# Altium integrated library ON Semi General Purpose Transistors.IntLib: 1679 symbols (part 6 of 36)
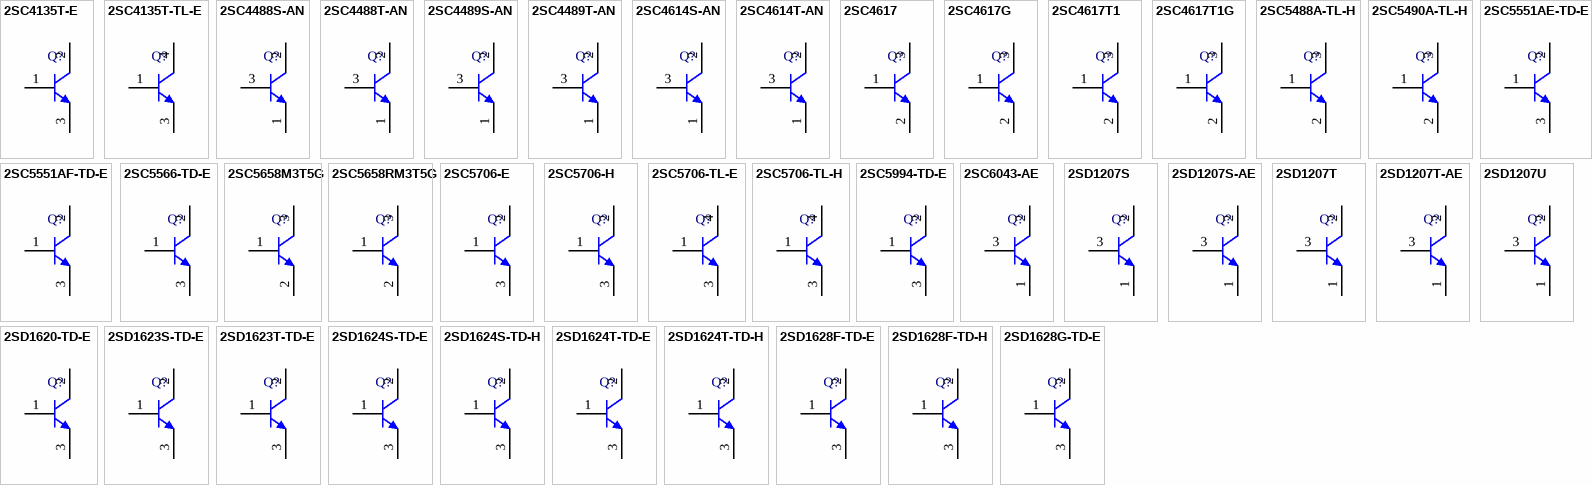
[diagram p50: symbols 2SC4135T-E to 2SD1628G-TD-E]

## 2SC4617T1G
designator Q?
NPN Silicon General Purpose Amplifier Transistor, 3-Pin SC-75, Pb-Free, Tape and Reel; Manufacturer: On Semiconductor; PartNumber: 2SC4617T1G; IC Continuous (A): 0.1; DatasheetVersion: Rev. 5; PackageVersion: Rev. F, 07/2005; PackageReference: SC-75-3-463-01; PackageDescription: 3-Pin Small Outline Transistor, Body 1.6 x 0.8 mm, Pitch 0.5 mm; Supplier 1: Digi-Key; Supplier Part Number 1: 2SC4617T1GOSTR-ND; Supplier 2: Digi-Key; Supplier Part Number 2: 2SC4617T1GOSCT-ND; Supplier 3: Mouser; Supplier Part Number 3: 863-2SC4617T1G; Packing: Tape and Reel; Polarity: NPN; RoHS: TRUE; Mounting Technology: Surface Mount; ComponentLink1Description: Manufacturer URL; ComponentLink1URL: http://www.onsemi.com/; ComponentLink2Description: Datasheet; ComponentLink2URL: http://www.onsemi.com/pub_link/Collateral/2SC4617-D.PDF; ComponentLink3Description: Package Specification; ComponentLink3URL: http://www.onsemi.com/pub_link/Collateral/463-01.PDF
footprint ONSC-SC-75-3-463-01_V (SOT23, 3-Leads, Body 1.6x0.8mm, Pitch 0.5mm)
pins: 1 B, 2 E, 3 C

## 2SC5488A-TL-H
designator Q?
RF Transistor, 10 V, 70 mA, fT=7 GHz, NPN Single, 3-Pin SSFP, Pb-Free, Tape and Reel; Manufacturer: On Semiconductor; PartNumber: 2SC5488A-TL-H; fT Min (MHz): 5000; IC Continuous (A): 0.07; PackageReference: SSFP-3; PackageDescription: 3-Pin Small Outline Transistor, Body 1.4 x 0.8 mm, Pitch 0.45 mm; Supplier 1: Digi-Key; Supplier Part Number 1: 2SC5488A-TL-H-ND; Supplier 2: Mouser; Supplier Part Number 2: 863-2SC5488A-TL-H; Packing: Tape and Reel; Polarity: NPN; RoHS: TRUE; Mounting Technology: Surface Mount; ComponentLink1Description: Manufacturer URL; ComponentLink1URL: http://www.onsemi.com/; ComponentLink2Description: Datasheet; ComponentLink2URL: http://www.onsemi.com/pub_link/Collateral/2SC5488A-D.PDF; ComponentLink3Description: Package Specification; ComponentLink3URL: http://www.onsemi.com/pub_link/Collateral/55GN01FA.PDF
footprint ONSC-SSFP-3_V (SOT23, 3-Leads, Body 1.4x0.8mm, Pitch 0.45mm)
pins: 1 B, 2 E, 3 C

## 2SC5490A-TL-H
designator Q?
RF Transistor, 10 V, 30 mA, fT=8 GHz, NPN Single, 3-Pin SSFP, Pb-Free, Tape and Reel; Manufacturer: On Semiconductor; PartNumber: 2SC5490A-TL-H; fT Min (MHz): 5000; IC Continuous (A): 0.03; PackageReference: SSFP-3; PackageDescription: 3-Pin Small Outline Transistor, Body 1.4 x 0.8 mm, Pitch 0.45 mm; Supplier 1: Digi-Key; Supplier Part Number 1: 2SC5490A-TL-H-ND; Supplier 2: Mouser; Supplier Part Number 2: 863-2SC5490A-TL-H; Packing: Tape and Reel; Polarity: NPN; RoHS: TRUE; Mounting Technology: Surface Mount; ComponentLink1Description: Manufacturer URL; ComponentLink1URL: http://www.onsemi.com/; ComponentLink2Description: Datasheet; ComponentLink2URL: http://www.onsemi.com/pub_link/Collateral/ENA1091-D.PDF; ComponentLink3Description: Package Specification; ComponentLink3URL: http://www.onsemi.com/pub_link/Collateral/55GN01FA.PDF
footprint ONSC-SSFP-3_V (SOT23, 3-Leads, Body 1.4x0.8mm, Pitch 0.45mm)
pins: 1 B, 2 E, 3 C

## 2SC5551AE-TD-E
designator Q?
RF Transistor, 30 V, 300 mA, fT=3.5 GHz, NPN Single, 3-Pin SOT-89, Pb-Free, Tape and Reel; Manufacturer: On Semiconductor; PartNumber: 2SC5551AE-TD-E; IC Continuous (A): 0.3; PackageVersion: Rev. O, 04/2012; PackageReference: SOT-89_PCP-1-3-419AU; PackageDescription: 3-Pin Small Outline Transistor, Body 4.5 x 2.5 mm, Pitch 1.5 mm; Supplier 1: Digi-Key; Supplier Part Number 1: 2SC5551AE-TD-E-ND; Supplier 2: Mouser; Supplier Part Number 2: 863-2SC5551AE-TD-E; Packing: Tape and Reel; Polarity: NPN; RoHS: TRUE; Mounting Technology: Surface Mount; ComponentLink1Description: Manufacturer URL; ComponentLink1URL: http://www.onsemi.com/; ComponentLink2Description: Datasheet; ComponentLink2URL: http://www.onsemi.com/pub_link/Collateral/2SC5551A-D.PDF; ComponentLink3Description: Package Specification; ComponentLink3URL: http://www.onsemi.com/pub_link/Collateral/ENA1087-D.PDF
footprint ONSC-SOT-89_PCP-1-3-419AU_V (SOT89, 3-Leads, Body 4.5x2.5mm, Pitch 1.5mm)
pins: 1 B, 2 C, 3 E

## 2SC5551AF-TD-E
designator Q?
RF Transistor, 30 V, 300 mA, fT=3.5 GHz, NPN Single, 3-Pin SOT-89, Pb-Free, Tape and Reel; Manufacturer: On Semiconductor; PartNumber: 2SC5551AF-TD-E; IC Continuous (A): 0.3; PackageVersion: Rev. O, 04/2012; PackageReference: SOT-89_PCP-1-3-419AU; PackageDescription: 3-Pin Small Outline Transistor, Body 4.5 x 2.5 mm, Pitch 1.5 mm; Supplier 1: Digi-Key; Supplier Part Number 1: 2SC5551AF-TD-E-ND; Supplier 2: Mouser; Supplier Part Number 2: 863-2SC5551AF-TD-E; Packing: Tape and Reel; Polarity: NPN; RoHS: TRUE; Mounting Technology: Surface Mount; ComponentLink1Description: Manufacturer URL; ComponentLink1URL: http://www.onsemi.com/; ComponentLink2Description: Datasheet; ComponentLink2URL: http://www.onsemi.com/pub_link/Collateral/2SC5551A-D.PDF; ComponentLink3Description: Package Specification; ComponentLink3URL: http://www.onsemi.com/pub_link/Collateral/ENA1087-D.PDF
footprint ONSC-SOT-89_PCP-1-3-419AU_V (SOT89, 3-Leads, Body 4.5x2.5mm, Pitch 1.5mm)
pins: 1 B, 2 C, 3 E

## 2SC5566-TD-E
designator Q?
Bipolar Transistor, 50 V, 4 A, Low VCE(sat), NPN Single, 3-Pin SOT-89, Pb-Free, Tape and Reel; Manufacturer: On Semiconductor; PartNumber: 2SC5566-TD-E; IC Continuous (A): 4; PackageVersion: Rev. O, 04/2012; PackageReference: SOT-89_PCP-1-3-419AU; PackageDescription: 3-Pin Small Outline Transistor, Body 4.5 x 2.5 mm, Pitch 1.5 mm; Supplier 1: Digi-Key; Supplier Part Number 1: 2SC5566-TD-E-ND; Supplier 2: Mouser; Supplier Part Number 2: 863-2SC5566-TD-E; Packing: Tape and Reel; Polarity: NPN; RoHS: TRUE; Mounting Technology: Surface Mount; ComponentLink1Description: Manufacturer URL; ComponentLink1URL: http://www.onsemi.com/; ComponentLink2Description: Datasheet; ComponentLink2URL: http://www.onsemi.com/pub_link/Collateral/EN6307-D.PDF; ComponentLink3Description: Package Specification; ComponentLink3URL: http://www.onsemi.com/pub_link/Collateral/ENA1087-D.PDF
footprint ONSC-SOT-89_PCP-1-3-419AU_V (SOT89, 3-Leads, Body 4.5x2.5mm, Pitch 1.5mm)
pins: 1 B, 2 C, 3 E

## 2SC5658M3T5G
designator Q?
NPN Silicon General Purpose Amplifier Transistor, 3-Pin SOT-723, Pb-Free, Tape and Reel; Manufacturer: On Semiconductor; PartNumber: 2SC5658M3T5G; IC Continuous (A): 0.15; DatasheetVersion: Rev. 4; PackageVersion: Rev. D, 08/2009; PackageReference: SOT-723-3-631AA-01; PackageDescription: 3-Pin Small Outline Transistor, Body 1.2 x 0.8 mm, Pitch 0.4 mm; Supplier 1: Digi-Key; Supplier Part Number 1: 2SC5658M3T5GOSTR-ND; Supplier 2: Digi-Key; Supplier Part Number 2: 2SC5658M3T5GOSCT-ND; Supplier 3: Digi-Key; Supplier Part Number 3: 2SC5658M3T5GOSDKR-ND; Supplier 4: Newark; Supplier Part Number 4: 45J2516; Supplier 5: Mouser; Supplier Part Number 5: 863-2SC5658M3T5G; Packing: Tape and Reel; Polarity: NPN; RoHS: TRUE; Mounting Technology: Surface Mount; ComponentLink1Description: Manufacturer URL; ComponentLink1URL: http://www.onsemi.com/; ComponentLink2Description: Datasheet; ComponentLink2URL: http://www.onsemi.com/pub_link/Collateral/2SC5658M3-D.PDF; ComponentLink3Description: Package Specification; ComponentLink3URL: http://www.onsemi.com/pub_link/Collateral/631AA.PDF
footprint ONSC-SOT-723-3-631AA-01_V (SOT223, 3-Leads, Body 1.2x0.8mm, Pitch 0.4mm)
pins: 1 B, 2 E, 3 C

## 2SC5658RM3T5G
designator Q?
NPN Silicon General Purpose Amplifier Transistor, 3-Pin SOT-723, Pb-Free, Tape and Reel; Manufacturer: On Semiconductor; PartNumber: 2SC5658RM3T5G; IC Continuous (A): 0.15; DatasheetVersion: Rev. 4; PackageVersion: Rev. D, 08/2009; PackageReference: SOT-723-3-631AA-01; PackageDescription: 3-Pin Small Outline Transistor, Body 1.2 x 0.8 mm, Pitch 0.4 mm; Supplier 1: Digi-Key; Supplier Part Number 1: 2SC5658RM3T5GOSTR-ND; Supplier 2: Digi-Key; Supplier Part Number 2: 2SC5658RM3T5GOSCT-ND; Supplier 3: Digi-Key; Supplier Part Number 3: 2SC5658RM3T5GOSDKR-ND; Supplier 4: Newark; Supplier Part Number 4: 52R8952; Supplier 5: Mouser; Supplier Part Number 5: 863-2SC5658RM3T5G; Packing: Tape and Reel; Polarity: NPN; RoHS: TRUE; Mounting Technology: Surface Mount; ComponentLink1Description: Manufacturer URL; ComponentLink1URL: http://www.onsemi.com/; ComponentLink2Description: Datasheet; ComponentLink2URL: http://www.onsemi.com/pub_link/Collateral/2SC5658M3-D.PDF; ComponentLink3Description: Package Specification; ComponentLink3URL: http://www.onsemi.com/pub_link/Collateral/631AA.PDF
footprint ONSC-SOT-723-3-631AA-01_V (SOT223, 3-Leads, Body 1.2x0.8mm, Pitch 0.4mm)
pins: 1 B, 2 E, 3 C

## 2SC5706-E
designator Q?
Bipolar Transistor, 50 V, 5 A, Low VCE(sat), NPN Single, 3-Pin IPAK, Pb-Free, Bulk Bag; Manufacturer: On Semiconductor; PartNumber: 2SC5706-E; IC Continuous (A): 5; PackageVersion: Rev. O, 01/2012; PackageReference: IPAK-3-369AJ; PackageDescription: 3-Pin Flange Mount, Vertical Straight Lead, Body 6.5 x 5.5 mm, Pitch 2.3 mm; Supplier 1: Digi-Key; Supplier Part Number 1: 2SC5706-E-ND; Supplier 2: Newark; Supplier Part Number 2: 65T2494; Supplier 3: Mouser; Supplier Part Number 3: 863-2SC5706-E; Packing: Bulk Bag; Polarity: NPN; RoHS: TRUE; Mounting Technology: Through Hole; ComponentLink1Description: Manufacturer URL; ComponentLink1URL: http://www.onsemi.com/; ComponentLink2Description: Datasheet; ComponentLink2URL: http://www.onsemi.com/pub_link/Collateral/EN6912-D.PDF; ComponentLink3Description: Package Specification; ComponentLink3URL: http://www.onsemi.cn/pub_link/Collateral/369AJ.PDF
footprint ONSC-IPAK-3-369AJ (FM, 3-Leads, Body 6.7x2.5mm, Pitch 2.3mm)
pins: 1 B, 2 C, 3 E

## 2SC5706-H
designator Q?
Bipolar Transistor, 50 V, 5 A, Low VCE(sat), NPN Single, 3-Pin IPAK, Pb-Free, Bulk Bag; Manufacturer: On Semiconductor; PartNumber: 2SC5706-H; IC Continuous (A): 5; PackageVersion: Rev. O, 01/2012; PackageReference: IPAK-3-369AJ; PackageDescription: 3-Pin Flange Mount, Vertical Straight Lead, Body 6.5 x 5.5 mm, Pitch 2.3 mm; Supplier 1: Digi-Key; Supplier Part Number 1: 2SC5706-H-ND; Supplier 2: Mouser; Supplier Part Number 2: 863-2SC5706-H; Packing: Bulk Bag; Polarity: NPN; RoHS: TRUE; Mounting Technology: Through Hole; ComponentLink1Description: Manufacturer URL; ComponentLink1URL: http://www.onsemi.com/; ComponentLink2Description: Datasheet; ComponentLink2URL: http://www.onsemi.com/pub_link/Collateral/EN6912-D.PDF; ComponentLink3Description: Package Specification; ComponentLink3URL: http://www.onsemi.cn/pub_link/Collateral/369AJ.PDF
footprint ONSC-IPAK-3-369AJ (FM, 3-Leads, Body 6.7x2.5mm, Pitch 2.3mm)
pins: 1 B, 2 C, 3 E

## 2SC5706-TL-E
designator Q?
Bipolar Transistor, 50 V, 5 A, Low VCE(sat), NPN Single, 3-Pin TP-FA, Pb-Free, Tape and Reel; Manufacturer: On Semiconductor; PartNumber: 2SC5706-TL-E; IC Continuous (A): 5; PackageVersion: Rev. O, 01/2012; PackageReference: TP-FA-3-369AH; PackageDescription: 3-Pin Flange Mount, Body 6.5 x 5.5 mm, Pitch 2.3 mm; Supplier 1: Digi-Key; Supplier Part Number 1: 2SC5706-TL-E-ND; Supplier 2: Mouser; Supplier Part Number 2: 863-2SC5706-TL-E; Packing: Tape and Reel; Polarity: NPN; RoHS: TRUE; Mounting Technology: Surface Mount; ComponentLink1Description: Manufacturer URL; ComponentLink1URL: http://www.onsemi.com/; ComponentLink2Description: Datasheet; ComponentLink2URL: http://www.onsemi.com/pub_link/Collateral/EN6912-D.PDF; ComponentLink3Description: Package Specification; ComponentLink3URL: http://www.onsemi.com/pub_link/Collateral/369AH.PDF
footprint ONSC-TP-FA-3-369AH_V (DPAK, 3-Leads, Body 6.5x5.5mm, Pitch 2.3mm)
pins: 1 B, 3 E, 4 C

## 2SC5706-TL-H
designator Q?
Bipolar Transistor, 50 V, 5 A, Low VCE(sat), NPN Single, 3-Pin TP-FA, Pb-Free, Tape and Reel; Manufacturer: On Semiconductor; PartNumber: 2SC5706-TL-H; IC Continuous (A): 5; PackageVersion: Rev. O, 01/2012; PackageReference: TP-FA-3-369AH; PackageDescription: 3-Pin Flange Mount, Body 6.5 x 5.5 mm, Pitch 2.3 mm; Supplier 1: Digi-Key; Supplier Part Number 1: 2SC5706-TL-H-ND; Supplier 2: Mouser; Supplier Part Number 2: 863-2SC5706-TL-H; Packing: Tape and Reel; Polarity: NPN; RoHS: TRUE; Mounting Technology: Surface Mount; ComponentLink1Description: Manufacturer URL; ComponentLink1URL: http://www.onsemi.com/; ComponentLink2Description: Datasheet; ComponentLink2URL: http://www.onsemi.com/pub_link/Collateral/EN6912-D.PDF; ComponentLink3Description: Package Specification; ComponentLink3URL: http://www.onsemi.com/pub_link/Collateral/369AH.PDF
footprint ONSC-TP-FA-3-369AH_V (DPAK, 3-Leads, Body 6.5x5.5mm, Pitch 2.3mm)
pins: 1 B, 3 E, 4 C

## 2SC5994-TD-E
designator Q?
Bipolar Transistor, 50 V, 2 A, Low VCE(sat), NPN Single, 3-Pin SOT-89, Pb-Free, Tape and Reel; Manufacturer: On Semiconductor; PartNumber: 2SC5994-TD-E; IC Continuous (A): 2; PackageVersion: Rev. O, 04/2012; PackageReference: SOT-89_PCP-1-3-419AU; PackageDescription: 3-Pin Small Outline Transistor, Body 4.5 x 2.5 mm, Pitch 1.5 mm; Supplier 1: Digi-Key; Supplier Part Number 1: 2SC5994-TD-E-ND; Supplier 2: Mouser; Supplier Part Number 2: 863-2SC5994-TD-E; Packing: Tape and Reel; Polarity: NPN; RoHS: TRUE; Mounting Technology: Surface Mount; ComponentLink1Description: Manufacturer URL; ComponentLink1URL: http://www.onsemi.com/; ComponentLink2Description: Datasheet; ComponentLink2URL: http://www.onsemi.com/pub_link/Collateral/EN8035-D.PDF; ComponentLink3Description: Package Specification; ComponentLink3URL: http://www.onsemi.com/pub_link/Collateral/ENA1087-D.PDF
footprint ONSC-SOT-89_PCP-1-3-419AU_V (SOT89, 3-Leads, Body 4.5x2.5mm, Pitch 1.5mm)
pins: 1 B, 2 C, 3 E

## 2SC6043-AE
designator Q?
Bipolar Transistor, 50 V, 2 A, Low VCE(sat), NPN Single, 3-Pin MP, Pb-Free, Ammo Box; Manufacturer: On Semiconductor; PartNumber: 2SC6043-AE; IC Continuous (A): 2; PackageReference: MP-3-135AB_AE; PackageDescription: 3-Pin Transistor Outline, Body 6 x 4.7 mm, Pitch 1.45 mm; Supplier 1: Digi-Key; Supplier Part Number 1: 2SC6043-AE-ND; Supplier 2: Newark; Supplier Part Number 2: 65T2503; Supplier 3: Mouser; Supplier Part Number 3: 863-2SC6043-AE; Packing: Ammo Box; Polarity: NPN; RoHS: TRUE; Mounting Technology: Through Hole; ComponentLink1Description: Manufacturer URL; ComponentLink1URL: http://www.onsemi.com/; ComponentLink2Description: Datasheet; ComponentLink2URL: http://www.onsemi.com/pub_link/Collateral/2SC6043-D.PDF; ComponentLink3Description: Package Specification; ComponentLink3URL: http://www.onsemi.com/pub_link/Collateral/EN8022-D.PDF
footprint ONSC-MP-3-135AB_AE (TO, 3-Leads, Body Dia 6mm, Pitch 2.5mm)
pins: 1 E, 2 C, 3 B

## 2SD1207S
designator Q?
NPN Epitaxial Planar Silicon Transistor, Large-Current Switching Application, 3-Pin MP, Pb-Free, Bulk Bag; Manufacturer: On Semiconductor; PartNumber: 2SD1207S; IC Continuous (A): 2; PackageVersion: Rev. O, 02/2012; PackageReference: MP-3-135AB; PackageDescription: 3-Pin Transistor Outline, Body 6 x 4.7 mm, Pitch 1.45 mm; Supplier 1: Digi-Key; Supplier Part Number 1: 2SD1207S-ND; Supplier 2: Newark; Supplier Part Number 2: 07W7689; Supplier 3: Mouser; Supplier Part Number 3: 863-2SD1207S; Packing: Bulk Bag; Polarity: NPN; RoHS: TRUE; Mounting Technology: Through Hole; ComponentLink1Description: Manufacturer URL; ComponentLink1URL: http://www.onsemi.com/; ComponentLink2Description: Datasheet; ComponentLink2URL: http://www.onsemi.com/pub_link/Collateral/EN930-D.PDF; ComponentLink3Description: Package Specification; ComponentLink3URL: http://www.onsemi.com/pub_link/Collateral/135AB.PDF
footprint ONSC-MP-3-135AB (MP, 3-Leads, Body Dia 6 mm, Pitch 1.45mm)
pins: 1 E, 2 C, 3 B

## 2SD1207S-AE
designator Q?
NPN Epitaxial Planar Silicon Transistor, Large-Current Switching Application, 3-Pin MP, Pb-Free, Ammo Box; Manufacturer: On Semiconductor; PartNumber: 2SD1207S-AE; IC Continuous (A): 2; PackageReference: MP-3-135AB_AE; PackageDescription: 3-Pin Transistor Outline, Body 6 x 4.7 mm, Pitch 1.45 mm; Supplier 1: Digi-Key; Supplier Part Number 1: 2SD1207S-AE-ND; Supplier 2: Mouser; Supplier Part Number 2: 863-2SD1207S-AE; Packing: Ammo Box; Polarity: NPN; RoHS: TRUE; Mounting Technology: Through Hole; ComponentLink1Description: Manufacturer URL; ComponentLink1URL: http://www.onsemi.com/; ComponentLink2Description: Datasheet; ComponentLink2URL: http://www.onsemi.com/pub_link/Collateral/EN930-D.PDF; ComponentLink3Description: Package Specification; ComponentLink3URL: http://www.onsemi.com/pub_link/Collateral/EN8022-D.PDF
footprint ONSC-MP-3-135AB_AE (TO, 3-Leads, Body Dia 6mm, Pitch 2.5mm)
pins: 1 E, 2 C, 3 B

## 2SD1207T
designator Q?
NPN Epitaxial Planar Silicon Transistor, Large-Current Switching Application, 3-Pin MP, Pb-Free, Bulk Bag; Manufacturer: On Semiconductor; PartNumber: 2SD1207T; IC Continuous (A): 2; PackageVersion: Rev. O, 02/2012; PackageReference: MP-3-135AB; PackageDescription: 3-Pin Transistor Outline, Body 6 x 4.7 mm, Pitch 1.45 mm; Supplier 1: Digi-Key; Supplier Part Number 1: 2SD1207T-ND; Supplier 2: Mouser; Supplier Part Number 2: 863-2SD1207T; Packing: Bulk Bag; Polarity: NPN; RoHS: TRUE; Mounting Technology: Through Hole; ComponentLink1Description: Manufacturer URL; ComponentLink1URL: http://www.onsemi.com/; ComponentLink2Description: Datasheet; ComponentLink2URL: http://www.onsemi.com/pub_link/Collateral/EN930-D.PDF; ComponentLink3Description: Package Specification; ComponentLink3URL: http://www.onsemi.com/pub_link/Collateral/135AB.PDF
footprint ONSC-MP-3-135AB (MP, 3-Leads, Body Dia 6 mm, Pitch 1.45mm)
pins: 1 E, 2 C, 3 B

## 2SD1207T-AE
designator Q?
NPN Epitaxial Planar Silicon Transistor, Large-Current Switching Application, 3-Pin MP, Pb-Free, Ammo Box; Manufacturer: On Semiconductor; PartNumber: 2SD1207T-AE; IC Continuous (A): 2; PackageReference: MP-3-135AB_AE; PackageDescription: 3-Pin Transistor Outline, Body 6 x 4.7 mm, Pitch 1.45 mm; Supplier 1: Digi-Key; Supplier Part Number 1: 2SD1207T-AE-ND; Supplier 2: Newark; Supplier Part Number 2: 65T2512; Supplier 3: Mouser; Supplier Part Number 3: 863-2SD1207T-AE; Packing: Ammo Box; Polarity: NPN; RoHS: TRUE; Mounting Technology: Through Hole; ComponentLink1Description: Manufacturer URL; ComponentLink1URL: http://www.onsemi.com/; ComponentLink2Description: Datasheet; ComponentLink2URL: http://www.onsemi.com/pub_link/Collateral/EN930-D.PDF; ComponentLink3Description: Package Specification; ComponentLink3URL: http://www.onsemi.com/pub_link/Collateral/EN8022-D.PDF
footprint ONSC-MP-3-135AB_AE (TO, 3-Leads, Body Dia 6mm, Pitch 2.5mm)
pins: 1 E, 2 C, 3 B

## 2SD1207U
designator Q?
NPN Epitaxial Planar Silicon Transistor, Large-Current Switching Application, 3-Pin MP, Pb-Free, Bulk Bag; Manufacturer: On Semiconductor; PartNumber: 2SD1207U; IC Continuous (A): 2; PackageVersion: Rev. O, 02/2012; PackageReference: MP-3-135AB; PackageDescription: 3-Pin Transistor Outline, Body 6 x 4.7 mm, Pitch 1.45 mm; Supplier 1: Digi-Key; Supplier Part Number 1: 2SD1207U-ND; Supplier 2: Mouser; Supplier Part Number 2: 863-2SD1207U; Packing: Bulk Bag; Polarity: NPN; RoHS: TRUE; Mounting Technology: Through Hole; ComponentLink1Description: Manufacturer URL; ComponentLink1URL: http://www.onsemi.com/; ComponentLink2Description: Datasheet; ComponentLink2URL: http://www.onsemi.com/pub_link/Collateral/EN930-D.PDF; ComponentLink3Description: Package Specification; ComponentLink3URL: http://www.onsemi.com/pub_link/Collateral/135AB.PDF
footprint ONSC-MP-3-135AB (MP, 3-Leads, Body Dia 6 mm, Pitch 1.45mm)
pins: 1 E, 2 C, 3 B

## 2SD1620-TD-E
designator Q?
Bipolar Transistor, 10 V, 3 A, Low VCE(sat), NPN Single, 3-Pin SOT-89, Pb-Free, Tape and Reel; Manufacturer: On Semiconductor; PartNumber: 2SD1620-TD-E; IC Continuous (A): 3; PackageVersion: Rev. O, 04/2012; PackageReference: SOT-89_PCP-1-3-419AU; PackageDescription: 3-Pin Small Outline Transistor, Body 4.5 x 2.5 mm, Pitch 1.5 mm; Supplier 1: Digi-Key; Supplier Part Number 1: 2SD1620-TD-E-ND; Supplier 2: Newark; Supplier Part Number 2: 65T2514; Supplier 3: Mouser; Supplier Part Number 3: 863-2SD1620-TD-E; Packing: Tape and Reel; Polarity: NPN; RoHS: TRUE; Mounting Technology: Surface Mount; ComponentLink1Description: Manufacturer URL; ComponentLink1URL: http://www.onsemi.com/; ComponentLink2Description: Datasheet; ComponentLink2URL: http://www.onsemi.com/pub_link/Collateral/EN1719-D.PDF; ComponentLink3Description: Package Specification; ComponentLink3URL: http://www.onsemi.com/pub_link/Collateral/ENA1087-D.PDF
footprint ONSC-SOT-89_PCP-1-3-419AU_V (SOT89, 3-Leads, Body 4.5x2.5mm, Pitch 1.5mm)
pins: 1 B, 2 C, 3 E

## 2SD1623S-TD-E
designator Q?
Bipolar Transistor, 50 V, 2 A, Low VCE(sat), NPN Single, 3-Pin SOT-89, Pb-Free, Tape and Reel; Manufacturer: On Semiconductor; PartNumber: 2SD1623S-TD-E; IC Continuous (A): 2; PackageVersion: Rev. O, 04/2012; PackageReference: SOT-89_PCP-1-3-419AU; PackageDescription: 3-Pin Small Outline Transistor, Body 4.5 x 2.5 mm, Pitch 1.5 mm; Supplier 1: Digi-Key; Supplier Part Number 1: 2SD1623S-TD-E-ND; Supplier 2: Newark; Supplier Part Number 2: 65T2515; Supplier 3: Mouser; Supplier Part Number 3: 863-2SD1623S-TD-E; Packing: Tape and Reel; Polarity: NPN; RoHS: TRUE; Mounting Technology: Surface Mount; ComponentLink1Description: Manufacturer URL; ComponentLink1URL: http://www.onsemi.com/; ComponentLink2Description: Datasheet; ComponentLink2URL: http://www.onsemi.com/pub_link/Collateral/EN1727-D.PDF; ComponentLink3Description: Package Specification; ComponentLink3URL: http://www.onsemi.com/pub_link/Collateral/ENA1087-D.PDF
footprint ONSC-SOT-89_PCP-1-3-419AU_V (SOT89, 3-Leads, Body 4.5x2.5mm, Pitch 1.5mm)
pins: 1 B, 2 C, 3 E

## 2SD1623T-TD-E
designator Q?
Bipolar Transistor, 50 V, 2 A, Low VCE(sat), NPN Single, 3-Pin SOT-89, Pb-Free, Tape and Reel; Manufacturer: On Semiconductor; PartNumber: 2SD1623T-TD-E; IC Continuous (A): 2; PackageVersion: Rev. O, 04/2012; PackageReference: SOT-89_PCP-1-3-419AU; PackageDescription: 3-Pin Small Outline Transistor, Body 4.5 x 2.5 mm, Pitch 1.5 mm; Supplier 1: Digi-Key; Supplier Part Number 1: 2SD1623T-TD-E-ND; Supplier 2: Mouser; Supplier Part Number 2: 863-2SD1623T-TD-E; Packing: Tape and Reel; Polarity: NPN; RoHS: TRUE; Mounting Technology: Surface Mount; ComponentLink1Description: Manufacturer URL; ComponentLink1URL: http://www.onsemi.com/; ComponentLink2Description: Datasheet; ComponentLink2URL: http://www.onsemi.com/pub_link/Collateral/EN1727-D.PDF; ComponentLink3Description: Package Specification; ComponentLink3URL: http://www.onsemi.com/pub_link/Collateral/ENA1087-D.PDF
footprint ONSC-SOT-89_PCP-1-3-419AU_V (SOT89, 3-Leads, Body 4.5x2.5mm, Pitch 1.5mm)
pins: 1 B, 2 C, 3 E

## 2SD1624S-TD-E
designator Q?
Bipolar Transistor, 50 V, 3 A, Low VCE(sat), NPN Single, 3-Pin SOT-89, Pb-Free, Tape and Reel; Manufacturer: On Semiconductor; PartNumber: 2SD1624S-TD-E; IC Continuous (A): 3; PackageVersion: Rev. O, 04/2012; PackageReference: SOT-89_PCP-1-3-419AU; PackageDescription: 3-Pin Small Outline Transistor, Body 4.5 x 2.5 mm, Pitch 1.5 mm; Supplier 1: Digi-Key; Supplier Part Number 1: 2SD1624S-TD-E-ND; Supplier 2: Mouser; Supplier Part Number 2: 863-2SD1624S-TD-E; Packing: Tape and Reel; Polarity: NPN; RoHS: TRUE; Mounting Technology: Surface Mount; ComponentLink1Description: Manufacturer URL; ComponentLink1URL: http://www.onsemi.com/; ComponentLink2Description: Datasheet; ComponentLink2URL: http://www.onsemi.com/pub_link/Collateral/EN2019-D.PDF; ComponentLink3Description: Package Specification; ComponentLink3URL: http://www.onsemi.com/pub_link/Collateral/ENA1087-D.PDF
footprint ONSC-SOT-89_PCP-1-3-419AU_V (SOT89, 3-Leads, Body 4.5x2.5mm, Pitch 1.5mm)
pins: 1 B, 2 C, 3 E

## 2SD1624S-TD-H
designator Q?
Bipolar Transistor, 50 V, 3 A, Low VCE(sat), NPN Single, 3-Pin SOT-89, Pb-Free, Tape and Reel; Manufacturer: On Semiconductor; PartNumber: 2SD1624S-TD-H; IC Continuous (A): 3; PackageVersion: Rev. O, 04/2012; PackageReference: SOT-89_PCP-1-3-419AU; PackageDescription: 3-Pin Small Outline Transistor, Body 4.5 x 2.5 mm, Pitch 1.5 mm; Supplier 1: Digi-Key; Supplier Part Number 1: 2SD1624S-TD-H-ND; Supplier 2: Mouser; Supplier Part Number 2: 863-2SD1624S-TD-H; Packing: Tape and Reel; Polarity: NPN; RoHS: TRUE; Mounting Technology: Surface Mount; ComponentLink1Description: Manufacturer URL; ComponentLink1URL: http://www.onsemi.com/; ComponentLink2Description: Datasheet; ComponentLink2URL: http://www.onsemi.com/pub_link/Collateral/EN2019-D.PDF; ComponentLink3Description: Package Specification; ComponentLink3URL: http://www.onsemi.com/pub_link/Collateral/ENA1087-D.PDF
footprint ONSC-SOT-89_PCP-1-3-419AU_V (SOT89, 3-Leads, Body 4.5x2.5mm, Pitch 1.5mm)
pins: 1 B, 2 C, 3 E

## 2SD1624T-TD-E
designator Q?
Bipolar Transistor, 50 V, 3 A, Low VCE(sat), NPN Single, 3-Pin SOT-89, Pb-Free, Tape and Reel; Manufacturer: On Semiconductor; PartNumber: 2SD1624T-TD-E; IC Continuous (A): 3; PackageVersion: Rev. O, 04/2012; PackageReference: SOT-89_PCP-1-3-419AU; PackageDescription: 3-Pin Small Outline Transistor, Body 4.5 x 2.5 mm, Pitch 1.5 mm; Supplier 1: Digi-Key; Supplier Part Number 1: 2SD1624T-TD-E-ND; Supplier 2: Mouser; Supplier Part Number 2: 863-2SD1624T-TD-E; Packing: Tape and Reel; Polarity: NPN; RoHS: TRUE; Mounting Technology: Surface Mount; ComponentLink1Description: Manufacturer URL; ComponentLink1URL: http://www.onsemi.com/; ComponentLink2Description: Datasheet; ComponentLink2URL: http://www.onsemi.com/pub_link/Collateral/EN2019-D.PDF; ComponentLink3Description: Package Specification; ComponentLink3URL: http://www.onsemi.com/pub_link/Collateral/ENA1087-D.PDF
footprint ONSC-SOT-89_PCP-1-3-419AU_V (SOT89, 3-Leads, Body 4.5x2.5mm, Pitch 1.5mm)
pins: 1 B, 2 C, 3 E

## 2SD1624T-TD-H
designator Q?
Bipolar Transistor, 50 V, 3 A, Low VCE(sat), NPN Single, 3-Pin SOT-89, Pb-Free, Tape and Reel; Manufacturer: On Semiconductor; PartNumber: 2SD1624T-TD-H; IC Continuous (A): 3; PackageVersion: Rev. O, 04/2012; PackageReference: SOT-89_PCP-1-3-419AU; PackageDescription: 3-Pin Small Outline Transistor, Body 4.5 x 2.5 mm, Pitch 1.5 mm; Supplier 1: Digi-Key; Supplier Part Number 1: 2SD1624T-TD-H-ND; Supplier 2: Mouser; Supplier Part Number 2: 863-2SD1624T-TD-H; Packing: Tape and Reel; Polarity: NPN; RoHS: TRUE; Mounting Technology: Surface Mount; ComponentLink1Description: Manufacturer URL; ComponentLink1URL: http://www.onsemi.com/; ComponentLink2Description: Datasheet; ComponentLink2URL: http://www.onsemi.com/pub_link/Collateral/EN2019-D.PDF; ComponentLink3Description: Package Specification; ComponentLink3URL: http://www.onsemi.com/pub_link/Collateral/ENA1087-D.PDF
footprint ONSC-SOT-89_PCP-1-3-419AU_V (SOT89, 3-Leads, Body 4.5x2.5mm, Pitch 1.5mm)
pins: 1 B, 2 C, 3 E

## 2SD1628F-TD-E
designator Q?
Bipolar Transistor, 20 V, 5 A, Low VCE(sat), NPN Single, 3-Pin SOT-89, Pb-Free, Tape and Reel; Manufacturer: On Semiconductor; PartNumber: 2SD1628F-TD-E; IC Continuous (A): 5; PackageVersion: Rev. O, 04/2012; PackageReference: SOT-89_PCP-1-3-419AU; PackageDescription: 3-Pin Small Outline Transistor, Body 4.5 x 2.5 mm, Pitch 1.5 mm; Supplier 1: Digi-Key; Supplier Part Number 1: 2SD1628F-TD-E-ND; Supplier 2: Mouser; Supplier Part Number 2: 863-2SD1628F-TD-E; Packing: Tape and Reel; Polarity: NPN; RoHS: TRUE; Mounting Technology: Surface Mount; ComponentLink1Description: Manufacturer URL; ComponentLink1URL: http://www.onsemi.com/; ComponentLink2Description: Datasheet; ComponentLink2URL: http://www.onsemi.com/pub_link/Collateral/EN1781-D.PDF; ComponentLink3Description: Package Specification; ComponentLink3URL: http://www.onsemi.com/pub_link/Collateral/ENA1087-D.PDF
footprint ONSC-SOT-89_PCP-1-3-419AU_V (SOT89, 3-Leads, Body 4.5x2.5mm, Pitch 1.5mm)
pins: 1 B, 2 C, 3 E

## 2SD1628F-TD-H
designator Q?
Bipolar Transistor, 20 V, 5 A, Low VCE(sat), NPN Single, 3-Pin SOT-89, Pb-Free, Tape and Reel; Manufacturer: On Semiconductor; PartNumber: 2SD1628F-TD-H; IC Continuous (A): 5; PackageVersion: Rev. O, 04/2012; PackageReference: SOT-89_PCP-1-3-419AU; PackageDescription: 3-Pin Small Outline Transistor, Body 4.5 x 2.5 mm, Pitch 1.5 mm; Supplier 1: Digi-Key; Supplier Part Number 1: 2SD1628F-TD-H-ND; Supplier 2: Mouser; Supplier Part Number 2: 863-2SD1628F-TD-H; Packing: Tape and Reel; Polarity: NPN; RoHS: TRUE; Mounting Technology: Surface Mount; ComponentLink1Description: Manufacturer URL; ComponentLink1URL: http://www.onsemi.com/; ComponentLink2Description: Datasheet; ComponentLink2URL: http://www.onsemi.com/pub_link/Collateral/EN1781-D.PDF; ComponentLink3Description: Package Specification; ComponentLink3URL: http://www.onsemi.com/pub_link/Collateral/ENA1087-D.PDF
footprint ONSC-SOT-89_PCP-1-3-419AU_V (SOT89, 3-Leads, Body 4.5x2.5mm, Pitch 1.5mm)
pins: 1 B, 2 C, 3 E

## 2SD1628G-TD-E
designator Q?
Bipolar Transistor, 20 V, 5 A, Low VCE(sat), NPN Single, 3-Pin SOT-89, Pb-Free, Tape and Reel; Manufacturer: On Semiconductor; PartNumber: 2SD1628G-TD-E; IC Continuous (A): 5; PackageVersion: Rev. O, 04/2012; PackageReference: SOT-89_PCP-1-3-419AU; PackageDescription: 3-Pin Small Outline Transistor, Body 4.5 x 2.5 mm, Pitch 1.5 mm; Supplier 1: Mouser; Supplier Part Number 1: 863-2SD1628G-TD-E; Packing: Tape and Reel; Polarity: NPN; RoHS: TRUE; Mounting Technology: Surface Mount; ComponentLink1Description: Manufacturer URL; ComponentLink1URL: http://www.onsemi.com/; ComponentLink2Description: Datasheet; ComponentLink2URL: http://www.onsemi.com/pub_link/Collateral/EN1781-D.PDF; ComponentLink3Description: Package Specification; ComponentLink3URL: http://www.onsemi.com/pub_link/Collateral/ENA1087-D.PDF
footprint ONSC-SOT-89_PCP-1-3-419AU_V (SOT89, 3-Leads, Body 4.5x2.5mm, Pitch 1.5mm)
pins: 1 B, 2 C, 3 E

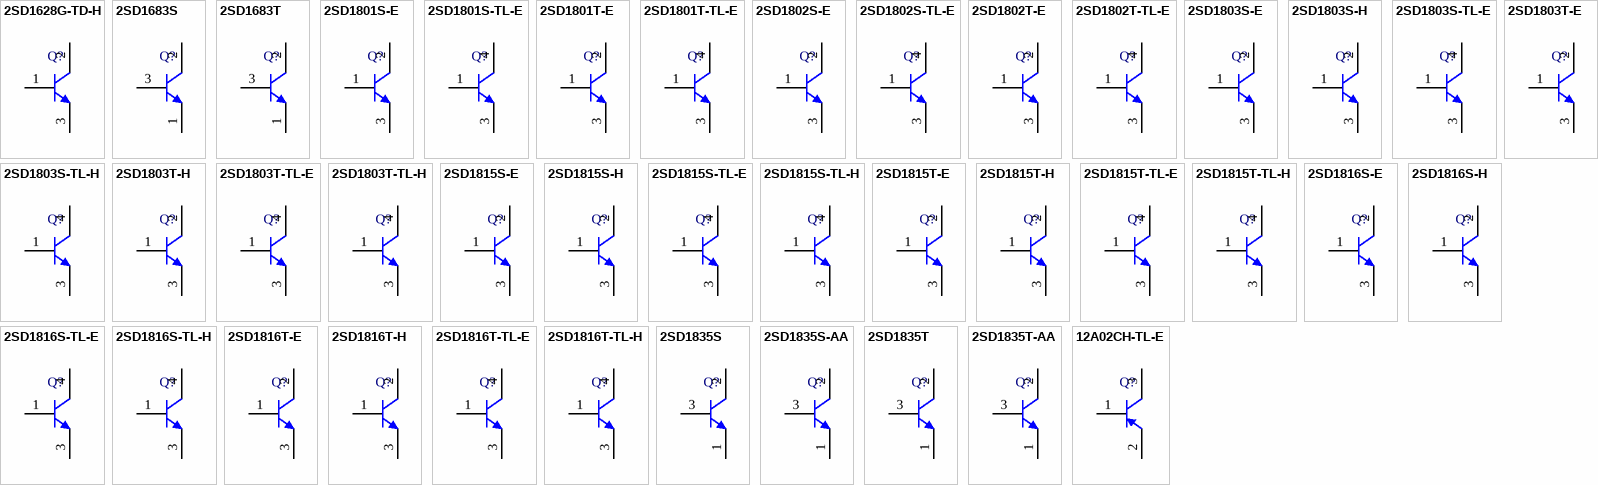
[diagram p7: symbols 2SD1628G-TD-H to 12A02CH-TL-E]

## 2SD1628G-TD-H
designator Q?
Bipolar Transistor, 20 V, 5 A, Low VCE(sat), NPN Single, 3-Pin SOT-89, Pb-Free, Tape and Reel; Manufacturer: On Semiconductor; PartNumber: 2SD1628G-TD-H; IC Continuous (A): 5; PackageVersion: Rev. O, 04/2012; PackageReference: SOT-89_PCP-1-3-419AU; PackageDescription: 3-Pin Small Outline Transistor, Body 4.5 x 2.5 mm, Pitch 1.5 mm; Supplier 1: Digi-Key; Supplier Part Number 1: 2SD1628G-TD-H-ND; Supplier 2: Mouser; Supplier Part Number 2: 863-2SD1628G-TD-H; Packing: Tape and Reel; Polarity: NPN; RoHS: TRUE; Mounting Technology: Surface Mount; ComponentLink1Description: Manufacturer URL; ComponentLink1URL: http://www.onsemi.com/; ComponentLink2Description: Datasheet; ComponentLink2URL: http://www.onsemi.com/pub_link/Collateral/EN1781-D.PDF; ComponentLink3Description: Package Specification; ComponentLink3URL: http://www.onsemi.com/pub_link/Collateral/ENA1087-D.PDF
footprint ONSC-SOT-89_PCP-1-3-419AU_V (SOT89, 3-Leads, Body 4.5x2.5mm, Pitch 1.5mm)
pins: 1 B, 2 C, 3 E

## 2SD1683S
designator Q?
Bipolar Transistor, 50 V, 4 A, Low VCE(sat), NPN Single, 3-Pin TO-126, Pb-Free, Bulk Bag; Manufacturer: On Semiconductor; PartNumber: 2SD1683S; IC Continuous (A): 4; PackageVersion: Rev. O, 01/2012; PackageReference: TO-126ML-3-77AC; PackageDescription: 3-Pin Flange Mount, Vertical Straight Lead, Body 8 x 3.3 mm, Pitch 2.4 mm; Supplier 1: Digi-Key; Supplier Part Number 1: 2SD1683S-ND; Supplier 2: Mouser; Supplier Part Number 2: 863-2SD1683S; Packing: Bulk Bag; Polarity: NPN; RoHS: TRUE; Mounting Technology: Through Hole; ComponentLink1Description: Manufacturer URL; ComponentLink1URL: http://www.onsemi.com/; ComponentLink2Description: Datasheet; ComponentLink2URL: http://www.onsemi.com/pub_link/Collateral/EN2063-D.PDF; ComponentLink3Description: Package Specification; ComponentLink3URL: http://www.onsemi.com/pub_link/Collateral/77AC.PDF
footprint ONSC-TO-126ML-3-77AC (FM, 3-Leads, Body 8.2x3.5mm, Pitch 2.4mm)
pins: 1 E, 2 C, 3 B

## 2SD1683T
designator Q?
Bipolar Transistor, 50 V, 4 A, Low VCE(sat), NPN Single, 3-Pin TO-126, Pb-Free, Bulk Bag; Manufacturer: On Semiconductor; PartNumber: 2SD1683T; IC Continuous (A): 4; PackageVersion: Rev. O, 01/2012; PackageReference: TO-126ML-3-77AC; PackageDescription: 3-Pin Flange Mount, Vertical Straight Lead, Body 8 x 3.3 mm, Pitch 2.4 mm; Supplier 1: Digi-Key; Supplier Part Number 1: 2SD1683T-ND; Supplier 2: Mouser; Supplier Part Number 2: 863-2SD1683T; Packing: Bulk Bag; Polarity: NPN; RoHS: TRUE; Mounting Technology: Through Hole; ComponentLink1Description: Manufacturer URL; ComponentLink1URL: http://www.onsemi.com/; ComponentLink2Description: Datasheet; ComponentLink2URL: http://www.onsemi.com/pub_link/Collateral/EN2063-D.PDF; ComponentLink3Description: Package Specification; ComponentLink3URL: http://www.onsemi.com/pub_link/Collateral/77AC.PDF
footprint ONSC-TO-126ML-3-77AC (FM, 3-Leads, Body 8.2x3.5mm, Pitch 2.4mm)
pins: 1 E, 2 C, 3 B

## 2SD1801S-E
designator Q?
Bipolar Transistor, 50 V, 2 A, Low VCE(sat), NPN Single, 3-Pin IPAK, Pb-Free, Bulk Bag; Manufacturer: On Semiconductor; PartNumber: 2SD1801S-E; IC Continuous (A): 2; PackageVersion: Rev. O, 01/2012; PackageReference: IPAK-3-369AJ; PackageDescription: 3-Pin Flange Mount, Vertical Straight Lead, Body 6.5 x 5.5 mm, Pitch 2.3 mm; Supplier 1: Digi-Key; Supplier Part Number 1: 2SD1801S-E-ND; Supplier 2: Mouser; Supplier Part Number 2: 863-2SD1801S-E; Packing: Bulk Bag; Polarity: NPN; RoHS: TRUE; Mounting Technology: Through Hole; ComponentLink1Description: Manufacturer URL; ComponentLink1URL: http://www.onsemi.com/; ComponentLink2Description: Datasheet; ComponentLink2URL: http://www.onsemi.com/pub_link/Collateral/EN2112-D.PDF; ComponentLink3Description: Package Specification; ComponentLink3URL: http://www.onsemi.cn/pub_link/Collateral/369AJ.PDF
footprint ONSC-IPAK-3-369AJ (FM, 3-Leads, Body 6.7x2.5mm, Pitch 2.3mm)
pins: 1 B, 2 C, 3 E

## 2SD1801S-TL-E
designator Q?
Bipolar Transistor, 50 V, 2 A, Low VCE(sat), NPN Single, 3-Pin TP-FA, Pb-Free, Tape and Reel; Manufacturer: On Semiconductor; PartNumber: 2SD1801S-TL-E; IC Continuous (A): 2; PackageVersion: Rev. O, 01/2012; PackageReference: TP-FA-3-369AH; PackageDescription: 3-Pin Flange Mount, Body 6.5 x 5.5 mm, Pitch 2.3 mm; Supplier 1: Digi-Key; Supplier Part Number 1: 2SD1801S-TL-E-ND; Supplier 2: Mouser; Supplier Part Number 2: 863-2SD1801S-TL-E; Packing: Tape and Reel; Polarity: NPN; RoHS: TRUE; Mounting Technology: Surface Mount; ComponentLink1Description: Manufacturer URL; ComponentLink1URL: http://www.onsemi.com/; ComponentLink2Description: Datasheet; ComponentLink2URL: http://www.onsemi.com/pub_link/Collateral/EN2112-D.PDF; ComponentLink3Description: Package Specification; ComponentLink3URL: http://www.onsemi.com/pub_link/Collateral/369AH.PDF
footprint ONSC-TP-FA-3-369AH_V (DPAK, 3-Leads, Body 6.5x5.5mm, Pitch 2.3mm)
pins: 1 B, 3 E, 4 C

## 2SD1801T-E
designator Q?
Bipolar Transistor, 50 V, 2 A, Low VCE(sat), NPN Single, 3-Pin IPAK, Pb-Free, Bulk Bag; Manufacturer: On Semiconductor; PartNumber: 2SD1801T-E; IC Continuous (A): 2; PackageVersion: Rev. O, 01/2012; PackageReference: IPAK-3-369AJ; PackageDescription: 3-Pin Flange Mount, Vertical Straight Lead, Body 6.5 x 5.5 mm, Pitch 2.3 mm; Supplier 1: Digi-Key; Supplier Part Number 1: 2SD1801T-E-ND; Supplier 2: Mouser; Supplier Part Number 2: 863-2SD1801T-E; Packing: Bulk Bag; Polarity: NPN; RoHS: TRUE; Mounting Technology: Through Hole; ComponentLink1Description: Manufacturer URL; ComponentLink1URL: http://www.onsemi.com/; ComponentLink2Description: Datasheet; ComponentLink2URL: http://www.onsemi.com/pub_link/Collateral/EN2112-D.PDF; ComponentLink3Description: Package Specification; ComponentLink3URL: http://www.onsemi.cn/pub_link/Collateral/369AJ.PDF
footprint ONSC-IPAK-3-369AJ (FM, 3-Leads, Body 6.7x2.5mm, Pitch 2.3mm)
pins: 1 B, 2 C, 3 E

## 2SD1801T-TL-E
designator Q?
Bipolar Transistor, 50 V, 2 A, Low VCE(sat), NPN Single, 3-Pin TP-FA, Pb-Free, Tape and Reel; Manufacturer: On Semiconductor; PartNumber: 2SD1801T-TL-E; IC Continuous (A): 2; PackageVersion: Rev. O, 01/2012; PackageReference: TP-FA-3-369AH; PackageDescription: 3-Pin Flange Mount, Body 6.5 x 5.5 mm, Pitch 2.3 mm; Supplier 1: Digi-Key; Supplier Part Number 1: 2SD1801T-TL-E-ND; Supplier 2: Mouser; Supplier Part Number 2: 863-2SD1801T-TL-E; Packing: Tape and Reel; Polarity: NPN; RoHS: TRUE; Mounting Technology: Surface Mount; ComponentLink1Description: Manufacturer URL; ComponentLink1URL: http://www.onsemi.com/; ComponentLink2Description: Datasheet; ComponentLink2URL: http://www.onsemi.com/pub_link/Collateral/EN2112-D.PDF; ComponentLink3Description: Package Specification; ComponentLink3URL: http://www.onsemi.com/pub_link/Collateral/369AH.PDF
footprint ONSC-TP-FA-3-369AH_V (DPAK, 3-Leads, Body 6.5x5.5mm, Pitch 2.3mm)
pins: 1 B, 3 E, 4 C

## 2SD1802S-E
designator Q?
Bipolar Transistor, 50 V, 3 A, Low VCE(sat), NPN Single, 3-Pin IPAK, Pb-Free, Bulk Bag; Manufacturer: On Semiconductor; PartNumber: 2SD1802S-E; IC Continuous (A): 3; PackageVersion: Rev. O, 01/2012; PackageReference: IPAK-3-369AJ; PackageDescription: 3-Pin Flange Mount, Vertical Straight Lead, Body 6.5 x 5.5 mm, Pitch 2.3 mm; Supplier 1: Digi-Key; Supplier Part Number 1: 2SD1802S-E-ND; Supplier 2: Newark; Supplier Part Number 2: 07W7700; Supplier 3: Mouser; Supplier Part Number 3: 863-2SD1802S-E; Packing: Bulk Bag; Polarity: NPN; RoHS: TRUE; Mounting Technology: Through Hole; ComponentLink1Description: Manufacturer URL; ComponentLink1URL: http://www.onsemi.com/; ComponentLink2Description: Datasheet; ComponentLink2URL: http://www.onsemi.com/pub_link/Collateral/EN2113-D.PDF; ComponentLink3Description: Package Specification; ComponentLink3URL: http://www.onsemi.cn/pub_link/Collateral/369AJ.PDF
footprint ONSC-IPAK-3-369AJ (FM, 3-Leads, Body 6.7x2.5mm, Pitch 2.3mm)
pins: 1 B, 2 C, 3 E

## 2SD1802S-TL-E
designator Q?
Bipolar Transistor, 50 V, 3 A, Low VCE(sat), NPN Single, 3-Pin TP-FA, Pb-Free, Tape and Reel; Manufacturer: On Semiconductor; PartNumber: 2SD1802S-TL-E; IC Continuous (A): 3; PackageVersion: Rev. O, 01/2012; PackageReference: TP-FA-3-369AH; PackageDescription: 3-Pin Flange Mount, Body 6.5 x 5.5 mm, Pitch 2.3 mm; Supplier 1: Digi-Key; Supplier Part Number 1: 2SD1802S-TL-E-ND; Supplier 2: Mouser; Supplier Part Number 2: 863-2SD1802S-TL-E; Packing: Tape and Reel; Polarity: NPN; RoHS: TRUE; Mounting Technology: Surface Mount; ComponentLink1Description: Manufacturer URL; ComponentLink1URL: http://www.onsemi.com/; ComponentLink2Description: Datasheet; ComponentLink2URL: http://www.onsemi.com/pub_link/Collateral/EN2113-D.PDF; ComponentLink3Description: Package Specification; ComponentLink3URL: http://www.onsemi.com/pub_link/Collateral/369AH.PDF
footprint ONSC-TP-FA-3-369AH_V (DPAK, 3-Leads, Body 6.5x5.5mm, Pitch 2.3mm)
pins: 1 B, 3 E, 4 C

## 2SD1802T-E
designator Q?
Bipolar Transistor, 50 V, 3 A, Low VCE(sat), NPN Single, 3-Pin IPAK, Pb-Free, Bulk Bag; Manufacturer: On Semiconductor; PartNumber: 2SD1802T-E; IC Continuous (A): 3; PackageVersion: Rev. O, 01/2012; PackageReference: IPAK-3-369AJ; PackageDescription: 3-Pin Flange Mount, Vertical Straight Lead, Body 6.5 x 5.5 mm, Pitch 2.3 mm; Supplier 1: Mouser; Supplier Part Number 1: 863-2SD1802T-E; Packing: Bulk Bag; Polarity: NPN; RoHS: TRUE; Mounting Technology: Through Hole; ComponentLink1Description: Manufacturer URL; ComponentLink1URL: http://www.onsemi.com/; ComponentLink2Description: Datasheet; ComponentLink2URL: http://www.onsemi.com/pub_link/Collateral/EN2113-D.PDF; ComponentLink3Description: Package Specification; ComponentLink3URL: http://www.onsemi.cn/pub_link/Collateral/369AJ.PDF
footprint ONSC-IPAK-3-369AJ (FM, 3-Leads, Body 6.7x2.5mm, Pitch 2.3mm)
pins: 1 B, 2 C, 3 E

## 2SD1802T-TL-E
designator Q?
Bipolar Transistor, 50 V, 3 A, Low VCE(sat), NPN Single, 3-Pin TP-FA, Pb-Free, Tape and Reel; Manufacturer: On Semiconductor; PartNumber: 2SD1802T-TL-E; IC Continuous (A): 3; PackageVersion: Rev. O, 01/2012; PackageReference: TP-FA-3-369AH; PackageDescription: 3-Pin Flange Mount, Body 6.5 x 5.5 mm, Pitch 2.3 mm; Supplier 1: Newark; Supplier Part Number 1: 52T9092; Supplier 2: Mouser; Supplier Part Number 2: 863-2SD1802T-TL-E; Packing: Tape and Reel; Polarity: NPN; RoHS: TRUE; Mounting Technology: Surface Mount; ComponentLink1Description: Manufacturer URL; ComponentLink1URL: http://www.onsemi.com/; ComponentLink2Description: Datasheet; ComponentLink2URL: http://www.onsemi.com/pub_link/Collateral/EN2113-D.PDF; ComponentLink3Description: Package Specification; ComponentLink3URL: http://www.onsemi.com/pub_link/Collateral/369AH.PDF
footprint ONSC-TP-FA-3-369AH_V (DPAK, 3-Leads, Body 6.5x5.5mm, Pitch 2.3mm)
pins: 1 B, 3 E, 4 C

## 2SD1803S-E
designator Q?
Bipolar Transistor, 50 V, 5 A, Low VCE(sat), NPN Single, 3-Pin IPAK, Pb-Free, Bulk Bag; Manufacturer: On Semiconductor; PartNumber: 2SD1803S-E; IC Continuous (A): 5; PackageVersion: Rev. O, 01/2012; PackageReference: IPAK-3-369AJ; PackageDescription: 3-Pin Flange Mount, Vertical Straight Lead, Body 6.5 x 5.5 mm, Pitch 2.3 mm; Supplier 1: Digi-Key; Supplier Part Number 1: 2SD1803S-E-ND; Supplier 2: Mouser; Supplier Part Number 2: 863-2SD1803S-E; Packing: Bulk Bag; Polarity: NPN; RoHS: TRUE; Mounting Technology: Through Hole; ComponentLink1Description: Manufacturer URL; ComponentLink1URL: http://www.onsemi.com/; ComponentLink2Description: Datasheet; ComponentLink2URL: http://www.onsemi.com/pub_link/Collateral/EN2085-D.PDF; ComponentLink3Description: Package Specification; ComponentLink3URL: http://www.onsemi.cn/pub_link/Collateral/369AJ.PDF
footprint ONSC-IPAK-3-369AJ (FM, 3-Leads, Body 6.7x2.5mm, Pitch 2.3mm)
pins: 1 B, 2 C, 3 E

## 2SD1803S-H
designator Q?
Bipolar Transistor, 50 V, 5 A, Low VCE(sat), NPN Single, 3-Pin IPAK, Pb-Free, Bulk Bag; Manufacturer: On Semiconductor; PartNumber: 2SD1803S-H; IC Continuous (A): 5; PackageVersion: Rev. O, 01/2012; PackageReference: IPAK-3-369AJ; PackageDescription: 3-Pin Flange Mount, Vertical Straight Lead, Body 6.5 x 5.5 mm, Pitch 2.3 mm; Supplier 1: Digi-Key; Supplier Part Number 1: 2SD1803S-H-ND; Supplier 2: Mouser; Supplier Part Number 2: 863-2SD1803S-H; Packing: Bulk Bag; Polarity: NPN; RoHS: TRUE; Mounting Technology: Through Hole; ComponentLink1Description: Manufacturer URL; ComponentLink1URL: http://www.onsemi.com/; ComponentLink2Description: Datasheet; ComponentLink2URL: http://www.onsemi.com/pub_link/Collateral/EN2085-D.PDF; ComponentLink3Description: Package Specification; ComponentLink3URL: http://www.onsemi.cn/pub_link/Collateral/369AJ.PDF
footprint ONSC-IPAK-3-369AJ (FM, 3-Leads, Body 6.7x2.5mm, Pitch 2.3mm)
pins: 1 B, 2 C, 3 E

## 2SD1803S-TL-E
designator Q?
Bipolar Transistor, 50 V, 5 A, Low VCE(sat), NPN Single, 3-Pin TP-FA, Pb-Free, Tape and Reel; Manufacturer: On Semiconductor; PartNumber: 2SD1803S-TL-E; IC Continuous (A): 5; PackageVersion: Rev. O, 01/2012; PackageReference: TP-FA-3-369AH; PackageDescription: 3-Pin Flange Mount, Body 6.5 x 5.5 mm, Pitch 2.3 mm; Supplier 1: Digi-Key; Supplier Part Number 1: 2SD1803S-TL-E-ND; Supplier 2: Mouser; Supplier Part Number 2: 863-2SD1803S-TL-E; Packing: Tape and Reel; Polarity: NPN; RoHS: TRUE; Mounting Technology: Surface Mount; ComponentLink1Description: Manufacturer URL; ComponentLink1URL: http://www.onsemi.com/; ComponentLink2Description: Datasheet; ComponentLink2URL: http://www.onsemi.com/pub_link/Collateral/EN2085-D.PDF; ComponentLink3Description: Package Specification; ComponentLink3URL: http://www.onsemi.com/pub_link/Collateral/369AH.PDF
footprint ONSC-TP-FA-3-369AH_V (DPAK, 3-Leads, Body 6.5x5.5mm, Pitch 2.3mm)
pins: 1 B, 3 E, 4 C

## 2SD1803S-TL-H
designator Q?
Bipolar Transistor, 50 V, 5 A, Low VCE(sat), NPN Single, 3-Pin TP-FA, Pb-Free, Tape and Reel; Manufacturer: On Semiconductor; PartNumber: 2SD1803S-TL-H; IC Continuous (A): 5; PackageVersion: Rev. O, 01/2012; PackageReference: TP-FA-3-369AH; PackageDescription: 3-Pin Flange Mount, Body 6.5 x 5.5 mm, Pitch 2.3 mm; Supplier 1: Digi-Key; Supplier Part Number 1: 2SD1803S-TL-H-ND; Supplier 2: Mouser; Supplier Part Number 2: 863-2SD1803S-TL-H; Packing: Tape and Reel; Polarity: NPN; RoHS: TRUE; Mounting Technology: Surface Mount; ComponentLink1Description: Manufacturer URL; ComponentLink1URL: http://www.onsemi.com/; ComponentLink2Description: Datasheet; ComponentLink2URL: http://www.onsemi.com/pub_link/Collateral/EN2085-D.PDF; ComponentLink3Description: Package Specification; ComponentLink3URL: http://www.onsemi.com/pub_link/Collateral/369AH.PDF
footprint ONSC-TP-FA-3-369AH_V (DPAK, 3-Leads, Body 6.5x5.5mm, Pitch 2.3mm)
pins: 1 B, 3 E, 4 C

## 2SD1803T-E
designator Q?
Bipolar Transistor, 50 V, 5 A, Low VCE(sat), NPN Single, 3-Pin IPAK, Pb-Free, Bulk Bag; Manufacturer: On Semiconductor; PartNumber: 2SD1803T-E; IC Continuous (A): 5; PackageVersion: Rev. O, 01/2012; PackageReference: IPAK-3-369AJ; PackageDescription: 3-Pin Flange Mount, Vertical Straight Lead, Body 6.5 x 5.5 mm, Pitch 2.3 mm; Supplier 1: Digi-Key; Supplier Part Number 1: 2SD1803T-E-ND; Supplier 2: Mouser; Supplier Part Number 2: 863-2SD1803T-E; Packing: Bulk Bag; Polarity: NPN; RoHS: TRUE; Mounting Technology: Through Hole; ComponentLink1Description: Manufacturer URL; ComponentLink1URL: http://www.onsemi.com/; ComponentLink2Description: Datasheet; ComponentLink2URL: http://www.onsemi.com/pub_link/Collateral/EN2085-D.PDF; ComponentLink3Description: Package Specification; ComponentLink3URL: http://www.onsemi.cn/pub_link/Collateral/369AJ.PDF
footprint ONSC-IPAK-3-369AJ (FM, 3-Leads, Body 6.7x2.5mm, Pitch 2.3mm)
pins: 1 B, 2 C, 3 E

## 2SD1803T-H
designator Q?
Bipolar Transistor, 50 V, 5 A, Low VCE(sat), NPN Single, 3-Pin IPAK, Pb-Free, Bulk Bag; Manufacturer: On Semiconductor; PartNumber: 2SD1803T-H; IC Continuous (A): 5; PackageVersion: Rev. O, 01/2012; PackageReference: IPAK-3-369AJ; PackageDescription: 3-Pin Flange Mount, Vertical Straight Lead, Body 6.5 x 5.5 mm, Pitch 2.3 mm; Supplier 1: Digi-Key; Supplier Part Number 1: 2SD1803T-H-ND; Supplier 2: Mouser; Supplier Part Number 2: 863-2SD1803T-H; Packing: Bulk Bag; Polarity: NPN; RoHS: TRUE; Mounting Technology: Through Hole; ComponentLink1Description: Manufacturer URL; ComponentLink1URL: http://www.onsemi.com/; ComponentLink2Description: Datasheet; ComponentLink2URL: http://www.onsemi.com/pub_link/Collateral/EN2085-D.PDF; ComponentLink3Description: Package Specification; ComponentLink3URL: http://www.onsemi.cn/pub_link/Collateral/369AJ.PDF
footprint ONSC-IPAK-3-369AJ (FM, 3-Leads, Body 6.7x2.5mm, Pitch 2.3mm)
pins: 1 B, 2 C, 3 E

## 2SD1803T-TL-E
designator Q?
Bipolar Transistor, 50 V, 5 A, Low VCE(sat), NPN Single, 3-Pin TP-FA, Pb-Free, Tape and Reel; Manufacturer: On Semiconductor; PartNumber: 2SD1803T-TL-E; IC Continuous (A): 5; PackageVersion: Rev. O, 01/2012; PackageReference: TP-FA-3-369AH; PackageDescription: 3-Pin Flange Mount, Body 6.5 x 5.5 mm, Pitch 2.3 mm; Supplier 1: Digi-Key; Supplier Part Number 1: 2SD1803T-TL-E-ND; Supplier 2: Mouser; Supplier Part Number 2: 863-2SD1803T-TL-E; Packing: Tape and Reel; Polarity: NPN; RoHS: TRUE; Mounting Technology: Surface Mount; ComponentLink1Description: Manufacturer URL; ComponentLink1URL: http://www.onsemi.com/; ComponentLink2Description: Datasheet; ComponentLink2URL: http://www.onsemi.com/pub_link/Collateral/EN2085-D.PDF; ComponentLink3Description: Package Specification; ComponentLink3URL: http://www.onsemi.com/pub_link/Collateral/369AH.PDF
footprint ONSC-TP-FA-3-369AH_V (DPAK, 3-Leads, Body 6.5x5.5mm, Pitch 2.3mm)
pins: 1 B, 3 E, 4 C

## 2SD1803T-TL-H
designator Q?
Bipolar Transistor, 50 V, 5 A, Low VCE(sat), NPN Single, 3-Pin TP-FA, Pb-Free, Tape and Reel; Manufacturer: On Semiconductor; PartNumber: 2SD1803T-TL-H; IC Continuous (A): 5; PackageVersion: Rev. O, 01/2012; PackageReference: TP-FA-3-369AH; PackageDescription: 3-Pin Flange Mount, Body 6.5 x 5.5 mm, Pitch 2.3 mm; Supplier 1: Digi-Key; Supplier Part Number 1: 2SD1803T-TL-H-ND; Supplier 2: Mouser; Supplier Part Number 2: 863-2SD1803T-TL-H; Packing: Tape and Reel; Polarity: NPN; RoHS: TRUE; Mounting Technology: Surface Mount; ComponentLink1Description: Manufacturer URL; ComponentLink1URL: http://www.onsemi.com/; ComponentLink2Description: Datasheet; ComponentLink2URL: http://www.onsemi.com/pub_link/Collateral/EN2085-D.PDF; ComponentLink3Description: Package Specification; ComponentLink3URL: http://www.onsemi.com/pub_link/Collateral/369AH.PDF
footprint ONSC-TP-FA-3-369AH_V (DPAK, 3-Leads, Body 6.5x5.5mm, Pitch 2.3mm)
pins: 1 B, 3 E, 4 C

## 2SD1815S-E
designator Q?
Bipolar Transistor, 100 V, 3 A, Low VCE(sat), NPN Single, 3-Pin IPAK, Pb-Free, Bulk Bag; Manufacturer: On Semiconductor; PartNumber: 2SD1815S-E; IC Continuous (A): 3; PackageVersion: Rev. O, 01/2012; PackageReference: IPAK-3-369AJ; PackageDescription: 3-Pin Flange Mount, Vertical Straight Lead, Body 6.5 x 5.5 mm, Pitch 2.3 mm; Supplier 1: Digi-Key; Supplier Part Number 1: 2SD1815S-E-ND; Supplier 2: Newark; Supplier Part Number 2: 65T2526; Supplier 3: Mouser; Supplier Part Number 3: 863-2SD1815S-E; Packing: Bulk Bag; Polarity: NPN; RoHS: TRUE; Mounting Technology: Through Hole; ComponentLink1Description: Manufacturer URL; ComponentLink1URL: http://www.onsemi.com/; ComponentLink2Description: Datasheet; ComponentLink2URL: http://www.onsemi.com/pub/Collateral/EN2539-D.PDF; ComponentLink3Description: Package Specification; ComponentLink3URL: http://www.onsemi.cn/pub_link/Collateral/369AJ.PDF
footprint ONSC-IPAK-3-369AJ (FM, 3-Leads, Body 6.7x2.5mm, Pitch 2.3mm)
pins: 1 B, 2 C, 3 E

## 2SD1815S-H
designator Q?
Bipolar Transistor, 100 V, 3 A, Low VCE(sat), NPN Single, 3-Pin IPAK, Pb-Free, Bulk Bag; Manufacturer: On Semiconductor; PartNumber: 2SD1815S-H; IC Continuous (A): 3; PackageVersion: Rev. O, 01/2012; PackageReference: IPAK-3-369AJ; PackageDescription: 3-Pin Flange Mount, Vertical Straight Lead, Body 6.5 x 5.5 mm, Pitch 2.3 mm; Supplier 1: Digi-Key; Supplier Part Number 1: 2SD1815S-H-ND; Supplier 2: Mouser; Supplier Part Number 2: 863-2SD1815S-H; Packing: Bulk Bag; Polarity: NPN; RoHS: TRUE; Mounting Technology: Through Hole; ComponentLink1Description: Manufacturer URL; ComponentLink1URL: http://www.onsemi.com/; ComponentLink2Description: Datasheet; ComponentLink2URL: http://www.onsemi.com/pub/Collateral/EN2539-D.PDF; ComponentLink3Description: Package Specification; ComponentLink3URL: http://www.onsemi.cn/pub_link/Collateral/369AJ.PDF
footprint ONSC-IPAK-3-369AJ (FM, 3-Leads, Body 6.7x2.5mm, Pitch 2.3mm)
pins: 1 B, 2 C, 3 E